# EAGLE library part LTV826 (library everykey)
Dual optoisolator
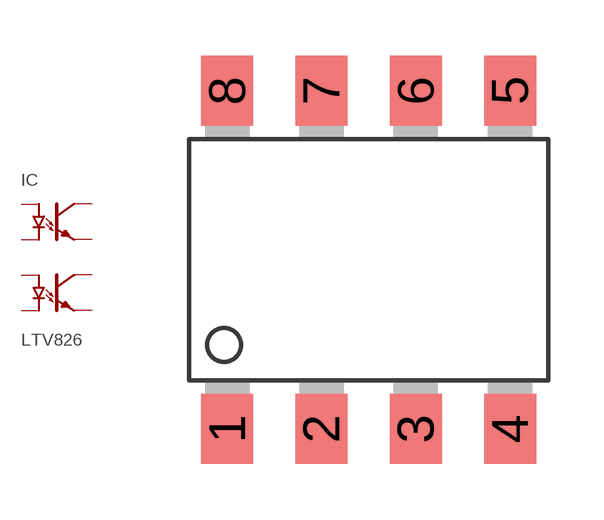
[diagram p52: symbol with the pads of DIP8-SMD; footprint DIP8-SMD]

Designator prefix IC

## LTV826S  [DIP8-SMD]
1  LED_A1  pas
2  LED_K1  pas
3  LED_A2  pas
4  LED_K2  pas
5  TRANS_E2  pas
6  TRANS_C2  pas
7  TRANS_E1  pas
8  TRANS_C1  pas

## Footprint DIP8-SMD (pad centres in mm)
smd 1.4 x 1.89: 1 -3.81,-4.555; 2 -1.27,-4.555; 3 1.27,-4.555; 4 3.81,-4.555; 5 3.81,4.555; 6 1.27,4.555; 7 -1.27,4.555; 8 -3.81,4.555